# EAGLE library part LSM330DL (library lsm330dl)
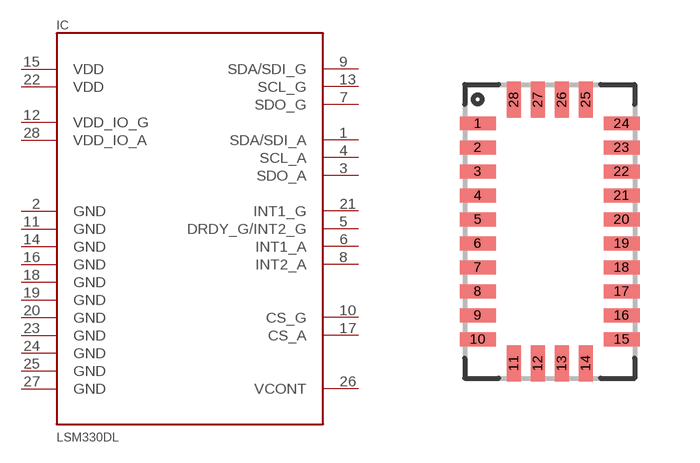
[diagram p0: symbol with the pads of LGA7.5X4.4_28L; footprint LGA7.5X4.4_28L]

Designator prefix IC

## LSM330DL  [LGA7.5X4.4_28L]
1  SDA/SDI_A
2  GND  pwr
3  SDO_A
4  SCL_A
5  DRDY_G/INT2_G  out
6  INT1_A  out
7  SDO_G
8  INT2_A  out
9  SDA/SDI_G
10  CS_G  in
11  GND  pwr
12  VDD_IO_G  pwr
13  SCL_G
14  GND  pwr
15  VDD  pwr
16  GND  pwr
17  CS_A  in
18  GND  pwr
19  GND  pwr
20  GND  pwr
21  INT1_G  out
22  VDD  pwr
23  GND  pwr
24  GND  pwr
25  GND  pwr
26  VCONT  pas
27  GND  pwr
28  VDD_IO_A  pwr

## Footprint LGA7.5X4.4_28L (pad centres in mm)
smd 0.9 x 0.35: 1 -1.8,2.7; 2 -1.8,2.1; 3 -1.8,1.5; 4 -1.8,0.9; 5 -1.8,0.3; 6 -1.8,-0.3; 7 -1.8,-0.9; 8 -1.8,-1.5; 9 -1.8,-2.1; 10 -1.8,-2.7; 15 1.8,-2.7; 16 1.8,-2.1; 17 1.8,-1.5; 18 1.8,-0.9; 19 1.8,-0.3; 20 1.8,0.3; 21 1.8,0.9; 22 1.8,1.5; 23 1.8,2.1; 24 1.8,2.7
smd 0.35 x 0.9: 11 -0.9,-3.3; 12 -0.3,-3.3; 13 0.3,-3.3; 14 0.9,-3.3; 25 0.9,3.3; 26 0.3,3.3; 27 -0.3,3.3; 28 -0.9,3.3